# Altium footprint library 研发中心PCB库文件.PcbLib: 333 footprints (part 17 of 21)
Each footprint in its own frame and in the unit in brackets; x right, y up, seen from the top. Pads: shape width x height; smd on the part's side, far side on the other; paste and mask are expansions set on the pad; w line width, h text height; cw(c..) or ccw(c..) is an arc to the next point about the centre after c.
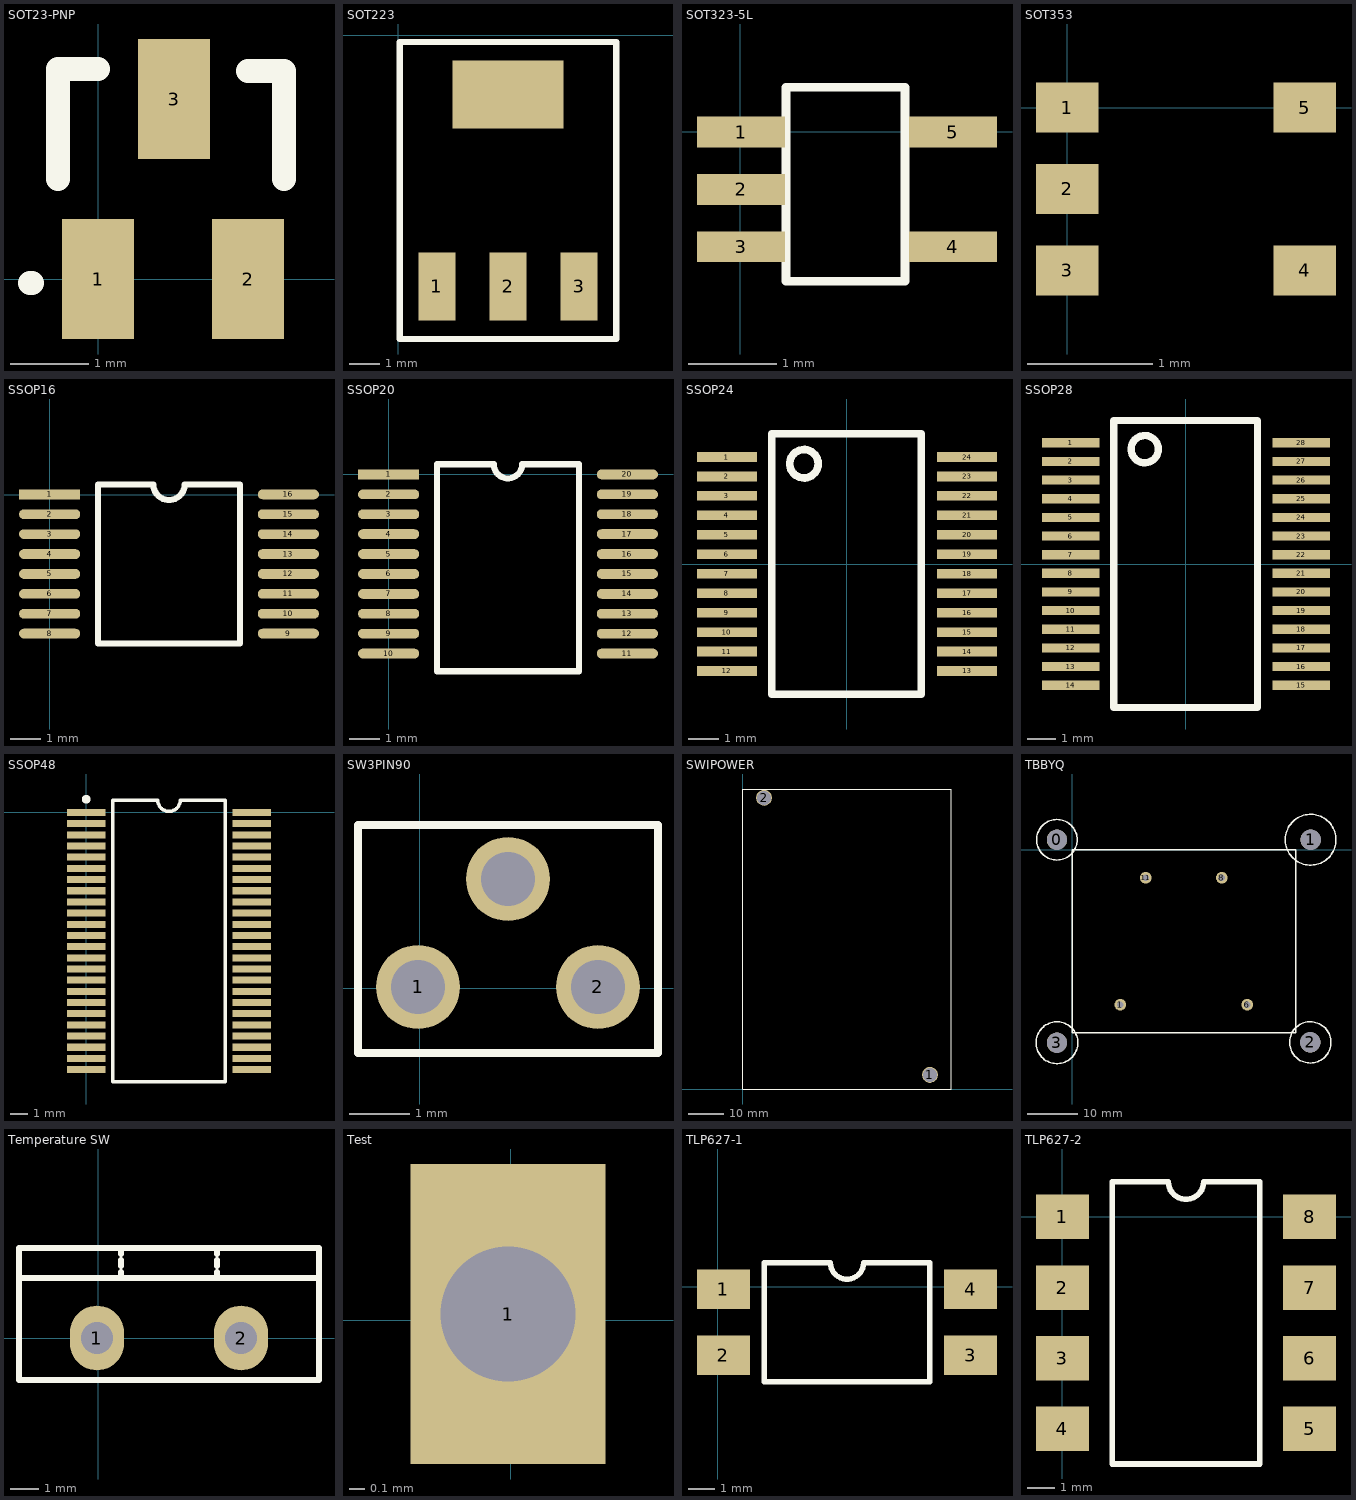
[diagram p16: the footprints below, top view; thin cyan lines are the x and y axes]

## SOT23-PNP [mil]
pads (3):
  rect 36x60 smd: 1(0,0) 2(75,0) 3(38,90)
Top Overlay:
  lines w12: -34,-2 -33,-2 ; -20,50 -20,105 0,105 ; 75,104 93,104 93,50

## SOT223 [mm]
pads (4):
  rect 1.2x2.2 smd: 1(1.256,-8.128) 2(3.556,-8.128) 3(5.856,-8.128)
  rect 3.6x2.2 smd: ""(3.556,-1.928)
Top Overlay:
  lines w0.2: 0.056,-9.828 7.056,-9.828 7.056,-0.228 0.056,-0.228 0.056,-9.828

## SOT323-5L [mm]
pads (5):
  rect 1x0.35 smd: 1(0.009,-0.004) 2(0.009,-0.654) 3(0.009,-1.304) 4(2.409,-1.304) 5(2.409,-0.004)
Top Overlay:
  lines w0.1: 0.517,-1.696 1.867,-1.696 1.867,0.504 0.517,0.504 0.517,-1.696

## SOT353 [mm]
pads (5):
  rect 0.5x0.4 smd: 1(0,0) 2(0,-0.65) 3(0,-1.3) 4(1.9,-1.3) 5(1.9,0)

## SSOP16 [mm]
pads (16):
  rect 2x0.32 smd: 1(-0.004,0.007)
  oval 2x0.32 smd: 2(-0.004,-0.643) 3(-0.004,-1.293) 4(-0.004,-1.943) 5(-0.004,-2.593) 6(-0.004,-3.243) 7(-0.004,-3.893) 8(-0.004,-4.543) 9(7.796,-4.543) 10(7.796,-3.893) 11(7.796,-3.243) 12(7.796,-2.593) 13(7.796,-1.943) 14(7.796,-1.293) 15(7.796,-0.643) 16(7.796,0.007)
Top Overlay:
  lines w0.2: 3.378,0.332 1.581,0.332 1.581,-4.868 6.211,-4.868 6.211,0.332 4.42,0.332 ; 3.386,0.332 ccw(c3.896,0.332) 4.407,0.332

## SSOP20 [mm]
pads (20):
  rect 2x0.32 smd: 1(0,0)
  oval 2x0.32 smd: 2(0,-0.65) 3(0,-1.3) 4(0,-1.95) 5(0,-2.6) 6(0,-3.25) 7(0,-3.9) 8(0,-4.55) 9(0,-5.2) 10(0,-5.85) 11(7.796,-5.85) 12(7.796,-5.2) 13(7.796,-4.55) 14(7.796,-3.9) 15(7.796,-3.25) 16(7.796,-2.6) 17(7.796,-1.95) 18(7.796,-1.3) 19(7.796,-0.65) 20(7.796,0)
Top Overlay:
  lines w0.2: 1.581,-6.426 1.581,0.332 3.435,0.332 ccw(c3.896,0.332) 4.357,0.332 6.211,0.332 6.211,-6.426 1.581,-6.426

## SSOP24 [mm]
pads (24):
  rect 2x0.32 smd: 1(-4.012,3.575) 2(-4.012,2.925) 3(-4.012,2.275) 4(-4.012,1.625) 5(-4.012,0.975) 6(-4.012,0.325) 7(-4.012,-0.325) 8(-4.012,-0.975) 9(-4.012,-1.625) 10(-4.012,-2.275) 11(-4.012,-2.925) 12(-4.012,-3.575) 13(4.013,-3.575) 14(4.013,-2.925) 15(4.013,-2.275) 16(4.013,-1.625) 17(4.013,-0.975) 18(4.013,-0.325) 19(4.013,0.325) 20(4.013,0.975) 21(4.013,1.625) 22(4.013,2.275) 23(4.013,2.925) 24(4.013,3.575)
Top Overlay:
  circle w0.254: c-1.437,3.35 r0.475
  lines w0.254: -2.512,-4.35 2.488,-4.35 2.488,4.35 -2.512,4.35 -2.512,-4.35

## SSOP28 [mm]
height 2
pads (28):
  rect 2x0.32 smd: 1(-4.012,4.225) 2(-4.012,3.575) 3(-4.012,2.925) 4(-4.012,2.275) 5(-4.012,1.625) 6(-4.012,0.975) 7(-4.012,0.325) 8(-4.012,-0.325) 9(-4.012,-0.975) 10(-4.012,-1.625) 11(-4.012,-2.275) 12(-4.012,-2.925) 13(-4.012,-3.575) 14(-4.012,-4.225) 15(4.013,-4.225) 16(4.013,-3.575) 17(4.013,-2.925) 18(4.013,-2.275) 19(4.013,-1.625) 20(4.013,-0.975) 21(4.013,-0.325) 22(4.013,0.325) 23(4.013,0.975) 24(4.013,1.625) 25(4.013,2.275) 26(4.013,2.925) 27(4.013,3.575) 28(4.013,4.225)
Top Overlay:
  circle w0.254: c-1.437,4 r0.475
  lines w0.254: -2.512,-5 2.488,-5 2.488,5 -2.512,5 -2.512,-5

## SSOP48 [mm] "SSOP; 48 Leads; Body Width 7.5 mm; Pitch 0.635 mm"
pads (48):
  rect 2.2x0.4 smd: 1(0,0) 2(0,-0.635) 3(0,-1.27) 4(0,-1.905) 5(0,-2.54) 6(0,-3.175) 7(0,-3.81) 8(0,-4.445) 9(0,-5.08) 10(0,-5.715) 11(0,-6.35) 12(0,-6.985) 13(0,-7.62) 14(0,-8.255) 15(0,-8.89) 16(0,-9.525) 17(0,-10.16) 18(0,-10.795) 19(0,-11.43) 20(0,-12.065) 21(0,-12.7) 22(0,-13.335) 23(0,-13.97) 24(0,-14.605) 25(9.4,-14.605) 26(9.4,-13.97) 27(9.4,-13.335) 28(9.4,-12.7) 29(9.4,-12.065) 30(9.4,-11.43) 31(9.4,-10.795) 32(9.4,-10.16) 33(9.4,-9.525) 34(9.4,-8.89) 35(9.4,-8.255) 36(9.4,-7.62) 37(9.4,-6.985) 38(9.4,-6.35) 39(9.4,-5.715) 40(9.4,-5.08) 41(9.4,-4.445) 42(9.4,-3.81) 43(9.4,-3.175) 44(9.4,-2.54) 45(9.4,-1.905) 46(9.4,-1.27) 47(9.4,-0.635) 48(9.4,0)
Top Overlay:
  circle w0.25: c0,0.75 r0.125
  lines w0.2: 1.5,-15.303 1.5,0.698 4.065,0.698 ccw(c4.7,0.698) 5.335,0.698 7.9,0.698 7.9,-15.303 1.5,-15.303

## SW3PIN90 [mm]
pads (3):
  round 1.4 hole 0.9: 1(-0.027,0.019) 2(2.973,0.019) ""(1.473,1.819)
Top Overlay:
  lines w0.127: -1.027,-1.081 3.973,-1.081 3.973,2.719 -1.027,2.719 -1.027,-1.081

## SWIPOWER [mm]
pads (2):
  round 4.5 hole 4: 1(53,4) 2(6,82.5)
Top Overlay:
  lines w0.254: 0,0 14.93,0 59,0 59,85 0,85 0,0

## TBBYQ [mm]
pads (8):
  round 4 hole 4: 0(-3,2) 1(47,2) 2(46.931,-37.931) 3(-3,-38)
  round 2.286 hole 1.27: 1(9.5,-30.5) 6(34.5,-30.5) 8(29.5,-5.5) 11(14.5,-5.5)
Top Overlay:
  circle w0.254: c47,2 r5
  circle w0.254: c46.931,-37.931 r4.07
  circle w0.254: c-3,-38 r4.123
  circle w0.254: c-3,2 r4
  lines w0.254: 0,-36.068 0,0 44.069,0 44.069,-36.068 0,-36.068

## Temperature SW [mil]
pads (2):
  oval 75x90 hole 45: 1(-1.57,0) 2(198.43,0)
Top Overlay:
  lines w7.87: 31.76,83.33 31.76,91.67 ; 31.76,100 31.76,108.33 ; 31.76,116.67 31.76,125 ; 165.09,83.33 165.09,91.67 ; 165.09,100 165.09,108.33 ; 165.09,116.67 165.09,125 ; -109.91,83.33 -109.91,125 306.76,125 306.76,83.33 ; -109.91,83.33 -109.91,-58.33 306.76,-58.33 306.76,83.33 ; -109.91,83.33 306.76,83.33

## Test [mm]
pads (1):
  rect 1.3x2 hole 0.9: 1(-0.019,0.043)

## TLP627-1 [mil]
pads (4):
  rect 80x60 smd: 1(8.35,-3.43) 2(8.35,-103.43) 3(381.97,-103.43) 4(381.97,-3.43)
Top Overlay:
  lines w8: 70.16,-143.43 70.16,36.57 170.16,36.57 ccw(c195.16,36.57) 220.16,36.57 320.16,36.57 320.16,-143.43 70.16,-143.43

## TLP627-2 [mm]
pads (8):
  rect 1.9x1.6 smd: 1(0,0) 2(0,-2.54) 3(0,-5.08) 4(0,-7.62) 5(8.89,-7.62) 6(8.89,-5.08) 7(8.89,-2.54) 8(8.89,0)
Top Layer:
  lines w0.508: 8.763,-7.62 9.144,-7.239 ; 8.763,-2.54 8.89,-2.413
Top Overlay:
  lines w0.2: 1.785,-8.89 1.785,1.27 3.81,1.27 ccw(c4.445,1.27) 5.08,1.27 7.105,1.27 7.105,-8.89 1.785,-8.89